# Altium schematic symbol library VSMY1850.SchLib: 1 symbol
Pins are listed as number, name and electrical type; pins without a type are passive.

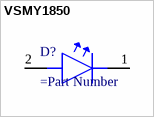
[diagram p0: symbol VSMY1850]

## VSMY1850
designator D?
=Description
pins: 1, 2